# EAGLE library part HA3-2425-5 (library Intersil_By_element14_Batch_1)
3.2ìs Sample and Hold Amplifiers
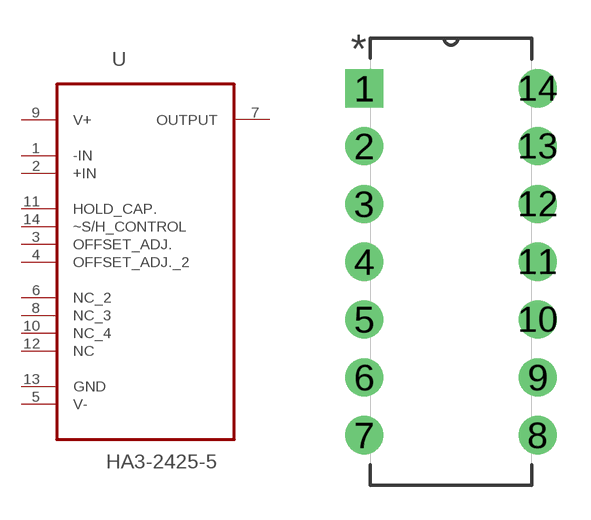
[diagram p89: symbol with the pads of DIP254P762X533-14; footprint DIP254P762X533-14]

Designator prefix U

## HA3-2425-5 (MPN: HA3-2425-5; OC_FARNELL: -; OC_NEWARK: 06F5216; PACKAGE: DIP-14; SUPPLIER: INTERSIL)  [DIP254P762X533-14]
1  -IN  in
2  +IN  in
3  OFFSET_ADJ.  pas
4  OFFSET_ADJ._2  pas
5  V-  pwr
6  NC_2  nc
7  OUTPUT  out
8  NC_3  nc
9  V+  pwr
10  NC_4  nc
11  HOLD_CAP.  pas
12  NC  nc
13  GND  pas
14  ~S/H_CONTROL  pas

## Footprint DIP254P762X533-14 (pad centres in mm)
drill 1.118 square: 1 -7.62,15.24
drill 1.118: 2 -7.62,12.7; 3 -7.62,10.16; 4 -7.62,7.62; 5 -7.62,5.08; 6 -7.62,2.54; 7 -7.62,0; 8 0,0; 9 0,2.54; 10 0,5.08; 11 0,7.62; 12 0,10.16; 13 0,12.7; 14 0,15.24